# Altium integrated library SemacSYS.IntLib: 9 symbols
Pins are listed as number, name and electrical type; pins without a type are passive.

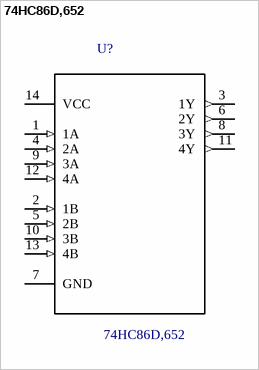
[diagram p0: symbol 74HC86D,652]

## 74HC86D,652
designator U?
74HC Series 6 V Surface Mount Quad 2-Input EXCLUSIVE-OR Gate - SOIC-14; MF: Nexperia USA; Availability: Unavailable; SnapEDA_Link: https://www.snapeda.com/parts/74HC86D%2C652/Nexperia%20USA%20Inc./view-part/?ref=snap; Price: None; Package: SOIC-14 NXP Semiconductors; MP: 74HC86D,652; Value: *
footprint *SOIC127P600X175-14N
pins: 1 1A (in), 2 1B (in), 3 1Y (out), 4 2A (in), 5 2B (in), 6 2Y (out), 7 GND, 8 3Y (out), 9 3A (in), 10 3B (in), 11 4Y (out), 12 4A (in), 13 4B (in), 14 VCC (power)


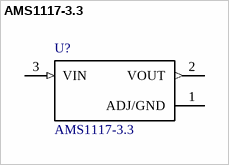
[diagram p1: symbol AMS1117-3.3]

## AMS1117-3.3
designator U?
Sot223/Pkg 1-Amp 3.3-Volt Low Drop Out Voltage Regulatator; MF: Advanced Monolithic Systems; Availability: Unavailable; SnapEDA_Link: https://www.snapeda.com/parts/AMS1117-3.3/Advanced%20Monolithic%20Systems/view-part/53450/?ref=snap; Price: None; Package: None; MP: AMS1117-3.3; Value: *
footprint *SOT229P700X180-4N
pins: 1 ADJ/GND (power), 2 VOUT (out), 3 VIN (in)


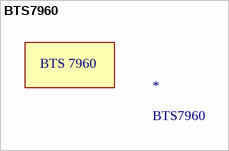
[diagram p2: symbol BTS7960]

## BTS7960
designator *
footprint BTS7960
text: BTS 7960


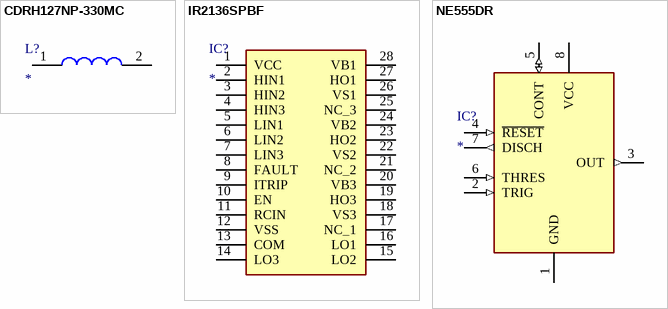
[diagram p3: symbols CDRH127NP-330MC to NE555DR]

## CDRH127NP-330MC
designator L?
Inductor; Manufacturer_Name: Sumida; Manufacturer_Part_Number: CDRH127NP-330MC; Description: Fixed Inductors 33uH 3A; Datasheet Link: http://products.sumida.com/products/pdf/CDRH127.pdf; Height: 8mm; Mouser Part Number: 851-CDRH127NP-330MC; Mouser Price/Stock: https://www.mouser.co.uk/ProductDetail/Sumida/CDRH127NP-330MC?qs=YW7jAfUHneFV96nY7FREjQ%3D%3D
footprint INDPM120120X800N
pins: 1, 2

## IR2136SPBF
designator IC?
Integrated Circuit; Manufacturer_Name: Infineon; Manufacturer_Part_Number: IR2136SPBF; Allied_Number: 70017147; Datasheet Link: https://www.infineon.com/dgdl/ir2136.pdf?fileId=5546d462533600a4015355c8a02116a5; Height: 2.65mm; Mouser Part Number: 942-IR2136SPBF; Mouser Price/Stock: https://www.mouser.co.uk/ProductDetail/Infineon-IR/IR2136SPBF?qs=ellYJlE8XiFRzygBXfcgZw%3D%3D; RS Part Number: 5412284P; RS Price/Stock: http://uk.rs-online.com/web/p/products/5412284P; Allied Price/Stock: https://www.alliedelec.com/infineon-ir2136spbf/70017147/
footprint SOIC127P1032X265-28N
pins: 1 VCC, 2 HIN1, 3 HIN2, 4 HIN3, 5 LIN1, 6 LIN2, 7 LIN3, 8 FAULT, 9 ITRIP, 10 EN, 11 RCIN, 12 VSS, 13 COM, 14 LO3, 15 LO2, 16 LO1, 17 NC_1, 18 VS3, 19 HO3, 20 VB3, 21 NC_2, 22 VS2, 23 HO2, 24 VB2, 25 NC_3, 26 VS1, 27 HO1, 28 VB1

## NE555DR
designator IC?
Integrated Circuit; Manufacturer_Name: Texas Instruments; Manufacturer_Part_Number: NE555DR; Datasheet Link: http://www.ti.com/lit/ds/symlink/ne555.pdf; Height: 1.75mm; Mouser Part Number: 595-NE555DR; Mouser Price/Stock: https://www.mouser.com/Search/Refine.aspx?Keyword=595-NE555DR; RS Part Number: 1218414; RS Price/Stock: http://uk.rs-online.com/web/p/products/1218414
footprint SOIC127P600X175-8N
pins: 1 GND (power), 2 TRIG (in), 3 OUT (out), 4 ~{RESET} (in), 5 CONT (io), 6 THRES (in), 7 DISCH (out), 8 VCC (power)


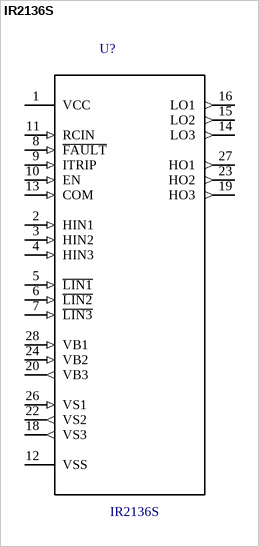
[diagram p4: symbol IR2136S]

## IR2136S
designator U?
Half-Bridge Gate Driver IC Inverting 28-SOIC; MF: Infineon; Price: None; Package: SOIC-28 Infineon; MP: IR2136S; SnapEDA_Link: https://www.snapeda.com/parts/IR2136S/Infineon%20Technologies/view-part/652863/?ref=snap; Availability: Unavailable; Value: *
footprint *SOIC127PX1032X265-28N
pins: 1 VCC (power), 2 HIN1 (in), 3 HIN2 (in), 4 HIN3 (in), 5 ~{LIN1} (in), 6 ~{LIN2} (in), 7 ~{LIN3} (in), 8 ~{FAULT} (in), 9 ITRIP (in), 10 EN (in), 11 RCIN (in), 12 VSS, 13 COM (in), 14 LO3 (out), 15 LO2 (out), 16 LO1 (out), 18 VS3 (out), 19 HO3 (out), 20 VB3 (out), 22 VS2 (out), 23 HO2 (out), 24 VB2 (in), 26 VS1 (in), 27 HO1 (out), 28 VB1 (in)


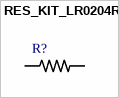
[diagram p5: symbol RES_KIT_LR0204R]

## RES_KIT_LR0204R
designator R?, comment 1-1625873-0  (value not drawn)
RS LR0204 RESISTOR KIT; MF: TE Connectivity AMP Connectors; MP: RES KIT LR0204R; Availability: Unavailable; SnapEDA_Link: https://www.snapeda.com/parts/RES%20KIT%20LR0204R/TE%20Connectivity/view-part/3223324/?ref=snap; Price: None; TE_purchase_URL: https://www.te.com/usa-en/product-1-1625873-0.html?te_bu=Cor&te_type=disp&te_campaign=seda_glo_cor-seda-global-disp-prtnr-fy19-seda-model-bom-cta_sma-317_1&elqCampaignId=32493; Package: None; Value: *
footprint *RESAD640W45L370D200
pins: 1, 2


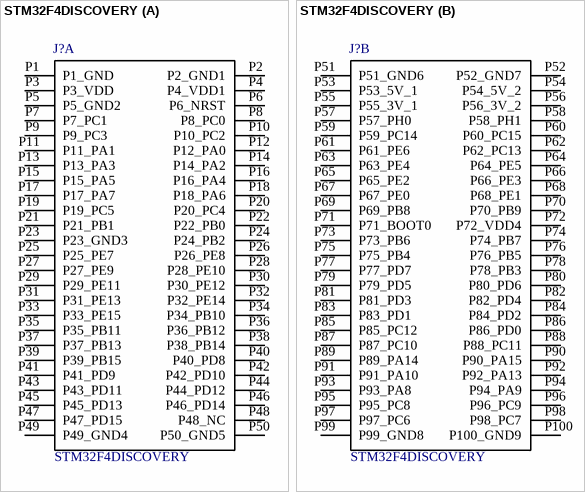
[diagram p6: symbol STM32F4DISCOVERY]

## STM32F4DISCOVERY
designator J?
Development kit: ARM ST; pin strips, pin header; No.of; MF: STMicroelectronics; Package: None; MP: STM32F4DISCOVERY; Price: None; Availability: Unavailable; SnapEDA_Link: https://www.snapeda.com/parts/STM32F4DISCOVERY/STMicroelectronics/view-part/?ref=snap; Value: *
footprint STMICROELECTRONICS_STM32F4DISCOVERY_STM32F4DISCOVERY(Primary)
part A pins: P1 P1_GND, P2 P2_GND1, P3 P3_VDD, P4 P4_VDD1, P5 P5_GND2, P6 P6_NRST, P7 P7_PC1, P8 P8_PC0, P9 P9_PC3, P10 P10_PC2, P11 P11_PA1, P12 P12_PA0, P13 P13_PA3, P14 P14_PA2, P15 P15_PA5, P16 P16_PA4, P17 P17_PA7, P18 P18_PA6, P19 P19_PC5, P20 P20_PC4, P21 P21_PB1, P22 P22_PB0, P23 P23_GND3, P24 P24_PB2, P25 P25_PE7, P26 P26_PE8, P27 P27_PE9, P28 P28_PE10, P29 P29_PE11, P30 P30_PE12, P31 P31_PE13, P32 P32_PE14, P33 P33_PE15, P34 P34_PB10, P35 P35_PB11, P36 P36_PB12, P37 P37_PB13, P38 P38_PB14, P39 P39_PB15, P40 P40_PD8, P41 P41_PD9, P42 P42_PD10, P43 P43_PD11, P44 P44_PD12, P45 P45_PD13, P46 P46_PD14, P47 P47_PD15, P48 P48_NC, P49 P49_GND4, P50 P50_GND5
part B pins: P51 P51_GND6, P52 P52_GND7, P53 P53_5V_1, P54 P54_5V_2, P55 P55_3V_1, P56 P56_3V_2, P57 P57_PH0, P58 P58_PH1, P59 P59_PC14, P60 P60_PC15, P61 P61_PE6, P62 P62_PC13, P63 P63_PE4, P64 P64_PE5, P65 P65_PE2, P66 P66_PE3, P67 P67_PE0, P68 P68_PE1, P69 P69_PB8, P70 P70_PB9, P71 P71_BOOT0, P72 P72_VDD4, P73 P73_PB6, P74 P74_PB7, P75 P75_PB4, P76 P76_PB5, P77 P77_PD7, P78 P78_PB3, P79 P79_PD5, P80 P80_PD6, P81 P81_PD3, P82 P82_PD4, P83 P83_PD1, P84 P84_PD2, P85 P85_PC12, P86 P86_PD0, P87 P87_PC10, P88 P88_PC11, P89 P89_PA14, P90 P90_PA15, P91 P91_PA10, P92 P92_PA13, P93 P93_PA8, P94 P94_PA9, P95 P95_PC8, P96 P96_PC9, P97 P97_PC6, P98 P98_PC7, P99 P99_GND8, P100 P100_GND9